# Altium footprint library Battery.PcbLib: 1 footprints
Each footprint in its own frame and in the unit in brackets; x right, y up, seen from the top. Pads: shape width x height; smd on the part's side, far side on the other; paste and mask are expansions set on the pad; w line width, h text height; cw(c..) or ccw(c..) is an arc to the next point about the centre after c.
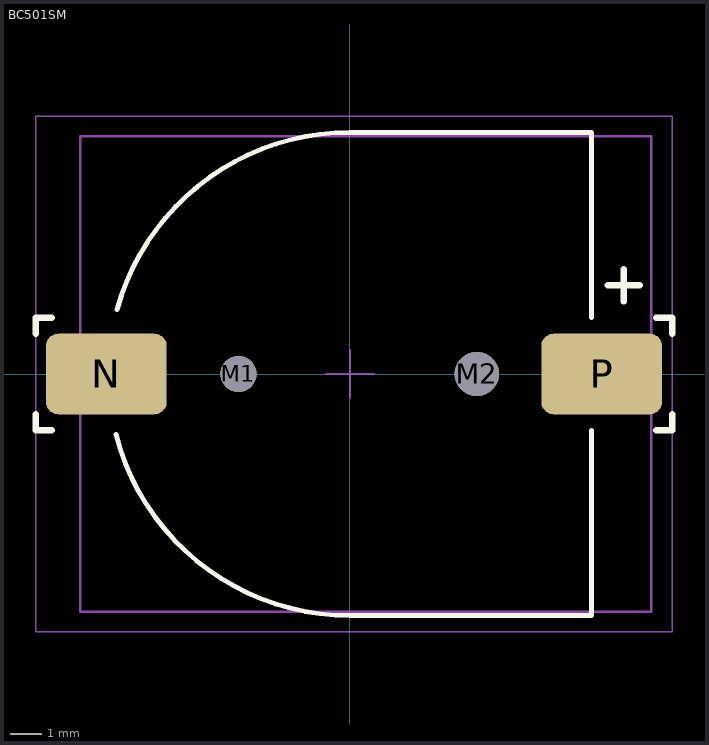
[diagram p0: the footprint, top view; thin cyan lines are the x and y axes]

## BC501SM [mil] "BATTERY HOLDER COIN 12MM CR1220 SMD"
height 160
pads (4):
  round 45 hole 45 unplated mask-50: M1(-138.49,0.01)
  round 55 hole 55 unplated mask-60: M2(157.51,0.01)
  rrect30% 150x100 smd: N(-302.49,0.01) P(312.51,0.01)
Top Overlay:
  lines w6: -290.48,-74.96 ccw(c0,0) 0,-300 300,-300 300,-70 ; -289.2,79.78 cw(c0,0) 0,300 300,300 300,70
  lines w8: -390,-50 -390,-70 -370,-70 ; -390,50 -390,70 -370,70 ; 320,110 360,110 ; 340,90 340,130 ; 380,-70 400,-70 400,-50 ; 380,70 400,70 400,50
Mechanical 13:
  lines w3: -334.64,-294.9 -334.64,294.91 374.02,294.91 374.02,-294.9 -334.64,-294.9
Mechanical 15:
  lines w2: -30,0 30,0 ; 0,-30 0,30 ; -390,-320 -390,320 400,320 400,-320 -390,-320
3D body "BC501SM.STEP": height 162.48, standoff -32.01, extent -334.64,-294.9 374.02,294.91